# EAGLE library part LM386 (library andereBauteile)
LM386 Low Voltage Audio Power Amplifier
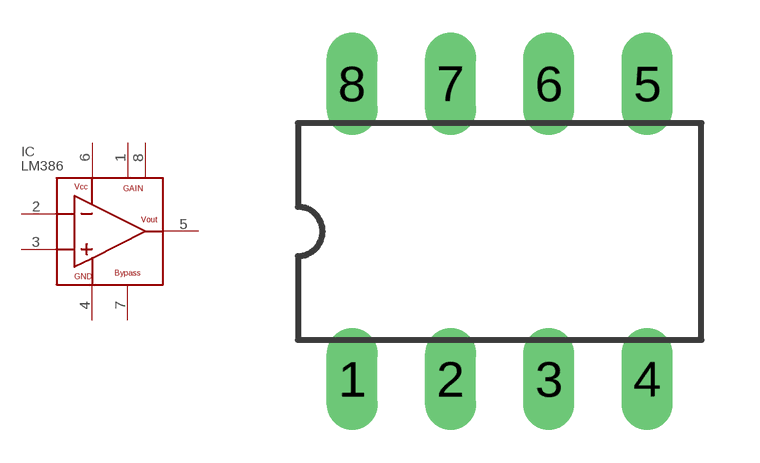
[diagram p24: symbol with the pads of DIL08; footprint DIL08]

Designator prefix IC

## LM386DIP  [DIL08]
1  GAIN1
2  IN-  in
3  IN+  in
4  GND  pwr
5  VOUT  out
6  VCC  pwr
7  BYPASS
8  GAIN2

## Footprint DIL08 (pad centres in mm)
drill 0.813 long: 1 -3.81,-3.81; 2 -1.27,-3.81; 3 1.27,-3.81; 4 3.81,-3.81; 5 3.81,3.81; 6 1.27,3.81; 7 -1.27,3.81; 8 -3.81,3.81